# Altium schematic symbol library FUFO.SchLib: 17 symbols
Pins are listed as number, name and electrical type; pins without a type are passive.

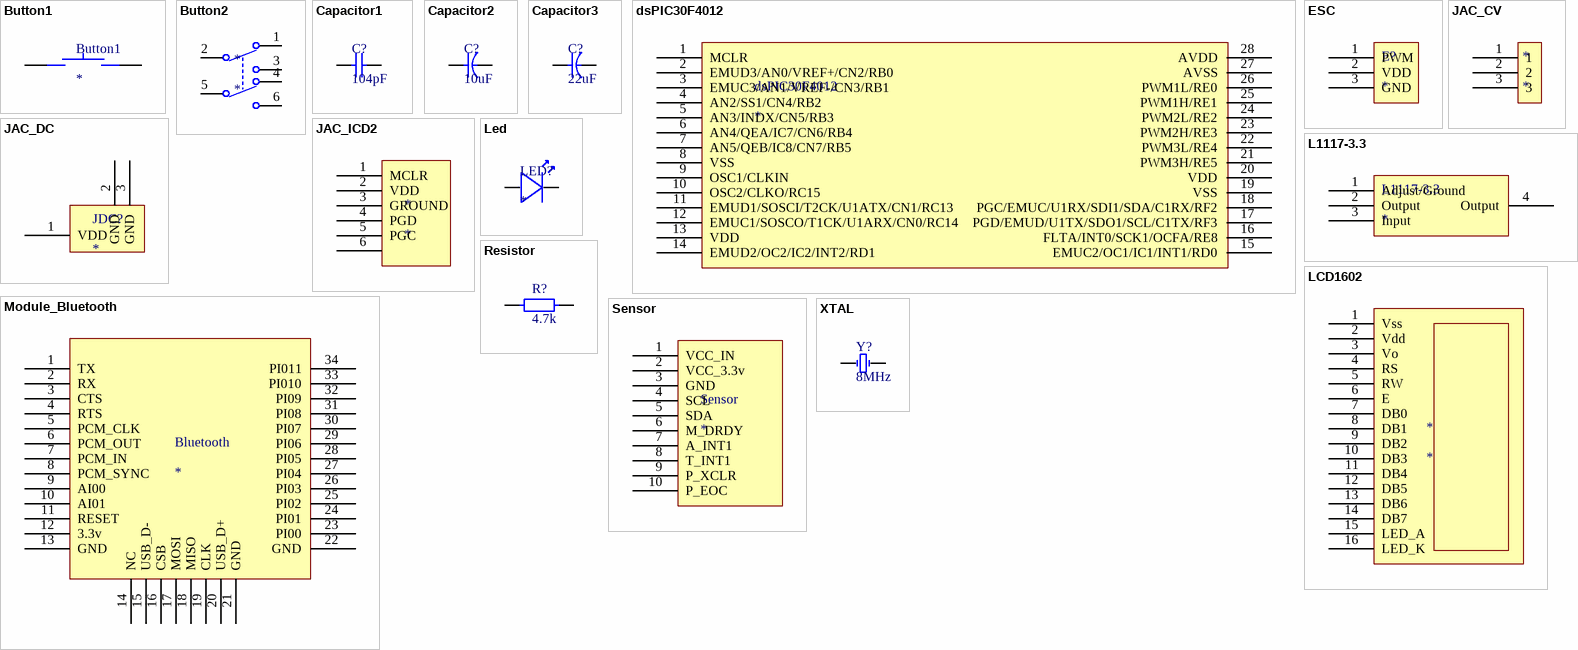
[diagram p0: symbols Button1 to XTAL]

## Button1
designator Button1
footprint Button1
pins: 1, 2

## Button2
designator *
footprint Button2
pins: 1 4, 2 1, 3 5, 4, 5, 6

## Capacitor1
designator C?, comment 104pF
Capacitor1
footprint Capacitor1
pins: 1, 2

## Capacitor2
designator C?, comment 10uF
Capacitor2
footprint Capacitor2
pins: 1, 2

## Capacitor3
designator C?, comment 22uF
Capacitor3
footprint Capacitor3
pins: 1, 2

## dsPIC30F4012
designator dsPIC30F4012
footprint dsPIC30F4012
pins: 1 MCLR, 2 EMUD3/AN0/VREF+/CN2/RB0, 3 EMUC3/AN1/VREF-/CN3/RB1, 4 AN2/SS1/CN4/RB2, 5 AN3/INDX/CN5/RB3, 6 AN4/QEA/IC7/CN6/RB4, 7 AN5/QEB/IC8/CN7/RB5, 8 VSS, 9 OSC1/CLKIN, 10 OSC2/CLKO/RC15, 11 EMUD1/SOSCI/T2CK/U1ATX/CN1/RC13, 12 EMUC1/SOSCO/T1CK/U1ARX/CN0/RC14, 13 VDD, 14 EMUD2/OC2/IC2/INT2/RD1, 15 EMUC2/OC1/IC1/INT1/RD0, 16 FLTA/INT0/SCK1/OCFA/RE8, 17 PGD/EMUD/U1TX/SDO1/SCL/C1TX/RF3, 18 PGC/EMUC/U1RX/SDI1/SDA/C1RX/RF2, 19 VSS, 20 VDD, 21 PWM3H/RE5, 22 PWM3L/RE4, 23 PWM2H/RE3, 24 PWM2L/RE2, 25 PWM1H/RE1, 26 PWM1L/RE0, 27 AVSS, 28 AVDD

## ESC
designator E?
footprint ESC
pins: 1 PWM, 2 VDD, 3 GND

## JAC_CV
designator *
footprint JAC_CV
pins: 1, 2, 3

## JAC_DC
designator JDC?
footprint Jac_DC
pins: 1 VDD, 2 GND, 3 GND

## JAC_ICD2
designator *
footprint JAC_ICD2
pins: 1 MCLR, 2 VDD, 3 GROUND, 4 PGD, 5 PGC, 6

## L1117-3.3
designator L1117-3.3
footprint L1117 - 3.3 (SOT223, 4-Leads, Body 6.5x3.5mm, Pitch 2.3mm, Lead Span 7mm, IPC Low Density)
pins: 1 Adjust/Ground, 2 Output, 3 Input, 4 Output

## LCD1602
designator *
footprint LCD1602
pins: 1 Vss, 2 Vdd, 3 Vo, 4 RS, 5 RW, 6 E, 7 DB0, 8 DB1, 9 DB2, 10 DB3, 11 DB4, 12 DB5, 13 DB6, 14 DB7, 15 LED_A, 16 LED_K

## Led
designator LED?
footprint LED
pins: 1, 2

## Module_Bluetooth
designator Bluetooth
footprint Module_Bluetooth
pins: 1 TX, 2 RX, 3 CTS, 4 RTS, 5 PCM_CLK, 6 PCM_OUT, 7 PCM_IN, 8 PCM_SYNC, 9 AI00, 10 AI01, 11 RESET, 12 3.3v, 13 GND, 14 NC, 15 USB_D-, 16 CSB, 17 MOSI, 18 MISO, 19 CLK, 20 USB_D+, 21 GND, 22 GND, 23 PI00, 24 PI01, 25 PI02, 26 PI03, 27 PI04, 28 PI05, 29 PI06, 30 PI07, 31 PI08, 32 PI09, 33 PI010, 34 PI011

## Resistor
designator R?, comment 4.7k
footprint Resistor
pins: 1, 2

## Sensor
designator Sensor
footprint Sensor
pins: 1 VCC_IN, 2 VCC_3.3v, 3 GND, 4 SCL, 5 SDA, 6 M_DRDY, 7 A_INT1, 8 T_INT1, 9 P_XCLR, 10 P_EOC

## XTAL
designator Y?, comment 8MHz
footprint XTAL (Connector; Header; 2 Position)
pins: 1, 2